# Altium footprint library lantronix.PCBLIB: 2 footprints
Each footprint in its own frame and in the unit in brackets; x right, y up, seen from the top. Pads: shape width x height; smd on the part's side, far side on the other; paste and mask are expansions set on the pad; w line width, h text height; cw(c..) or ccw(c..) is an arc to the next point about the centre after c.
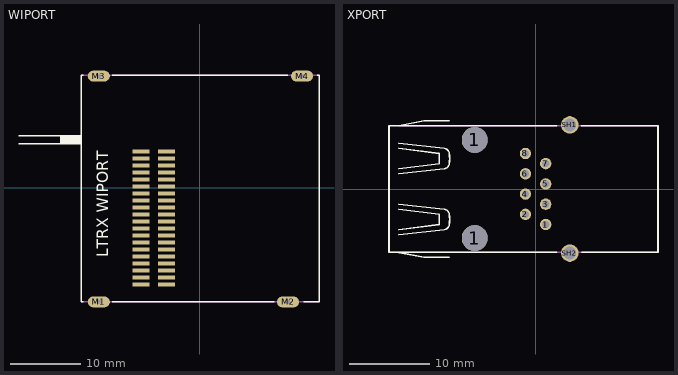
[diagram p0: the footprints below, top view; thin cyan lines are the x and y axes]

## WIPORT [mil]
pads (44):
  rect 95x22 smd: 1(-329.63,205.6) 2(-187.63,205.6) 3(-329.63,166.2) 4(-187.63,166.2) 5(-329.63,126.8) 6(-187.63,126.8) 7(-329.63,87.4) 8(-187.63,87.4) 9(-329.63,48) 10(-187.63,48) 11(-329.63,8.6) 12(-187.63,8.6) 13(-329.63,-30.8) 14(-187.63,-30.8) 15(-329.63,-70.2) 16(-187.63,-70.2) 17(-329.63,-109.6) 18(-187.63,-109.6) 19(-329.63,-149) 20(-187.63,-149) 21(-329.63,-188.4) 22(-187.63,-188.4) 23(-329.63,-227.8) 24(-187.63,-227.8) 25(-329.63,-267.2) 26(-187.63,-267.2) 27(-329.63,-306.6) 28(-187.63,-306.6) 29(-329.63,-346) 30(-187.63,-346) 31(-329.63,-385.4) 32(-187.63,-385.4) 33(-329.63,-424.8) 34(-187.63,-424.8) 35(-329.63,-464.2) 36(-187.63,-464.2) 37(-329.63,-503.6) 38(-187.63,-503.6) 39(-329.63,-543) 40(-187.63,-543)
  oval 124x62 hole 26: M1(-567,-640) M2(496,-640) M3(-567,628) M4(575,628)
Top Overlay:
  rectangle: -784,244 -665,297
  lines w8: -1015,248 -784,248 ; -1015,293 -784,293 ; -655,-640 -665,-640 -665,634 -655,634 ; -490,-640 420,-640 ; -490,634 495,634 ; 585,-640 670,-640 670,634 660,634
  text "LTRX WIPORT" at -490,-390 h108.5
Mechanical 11:
  lines w0: -604,-640 ccw(c-591,-640) -591,-653 -543,-653 ccw(c-543,-640) -530,-640 ccw(c-543,-640) -543,-627 -591,-627 ccw(c-591,-640) -604,-640 ; -604,628 ccw(c-591,628) -591,615 -543,615 ccw(c-543,628) -530,628 ccw(c-543,628) -543,641 -591,641 ccw(c-591,628) -604,628 ; 459,-640 ccw(c472,-640) 472,-653 520,-653 ccw(c520,-640) 533,-640 ccw(c520,-640) 520,-627 472,-627 ccw(c472,-640) 459,-640 ; 538,628 ccw(c551,628) 551,615 599,615 ccw(c599,628) 612,628 ccw(c599,628) 599,641 551,641 ccw(c551,628) 538,628
Mechanical 16:
  lines w8: -665,-640 670,-640 ; -665,634 670,634
Via Holes:
  rectangle: -665,-640 -147,628
  rectangle: -147,-640 670,-450
  rectangle: 43,-450 670,-328
  rectangle: 358,-328 670,628
  rectangle: -147,504 358,628

## XPORT [mil]
pads (12):
  round 127.95 hole 127.95: 1(-300,-242.13) 1(-300,242.13)
  round 56 hole 35.43: 1(50,-175) 2(-50,-125) 3(50,-75) 4(-50,-25) 5(50,25) 6(-50,75) 7(50,125) 8(-50,175)
  round 86.61 hole 62.99: SH1(168.5,315.94) SH2(168.5,-315.94)
Top Overlay:
  lines w8: -675.2,-312.99 -550.2,-336.22 -425.2,-336.22 ; -675.2,-225 -450.2,-200 ccw(c-453.33,-171.87) -425.2,-175 ccw(c-649.63,-150) -425.2,-125 ccw(c-453.33,-128.13) -450.2,-100 -675.2,-75 ; -675.2,-200 -475.2,-175 -475.2,-125 -675.2,-100 ; -675.2,75 -450.2,100 ccw(c-453.33,128.13) -425.2,125 ccw(c-649.63,150) -425.2,175 ccw(c-453.33,171.87) -450.2,200 -675.2,225 ; -675.2,100 -475.2,125 -475.2,175 -675.2,200 ; -425.2,336.81 -550.2,336.81 -675.2,312.01 -722.44,312.01 ; 103.54,-312.01 -722.44,-312.01 -722.44,312.01 ; 103.54,312.01 -722.44,312.01 ; 225,312.01 603.35,312.01 603.35,-312.01 227.76,-312.01
Mechanical 16:
  lines w8: -722.44,-312.01 603.35,-312.01 ; -675.2,312.01 603.35,312.01